# Altium integrated library TI Power Management Lighting and Display.IntLib: 745 symbols (part 24 of 48)
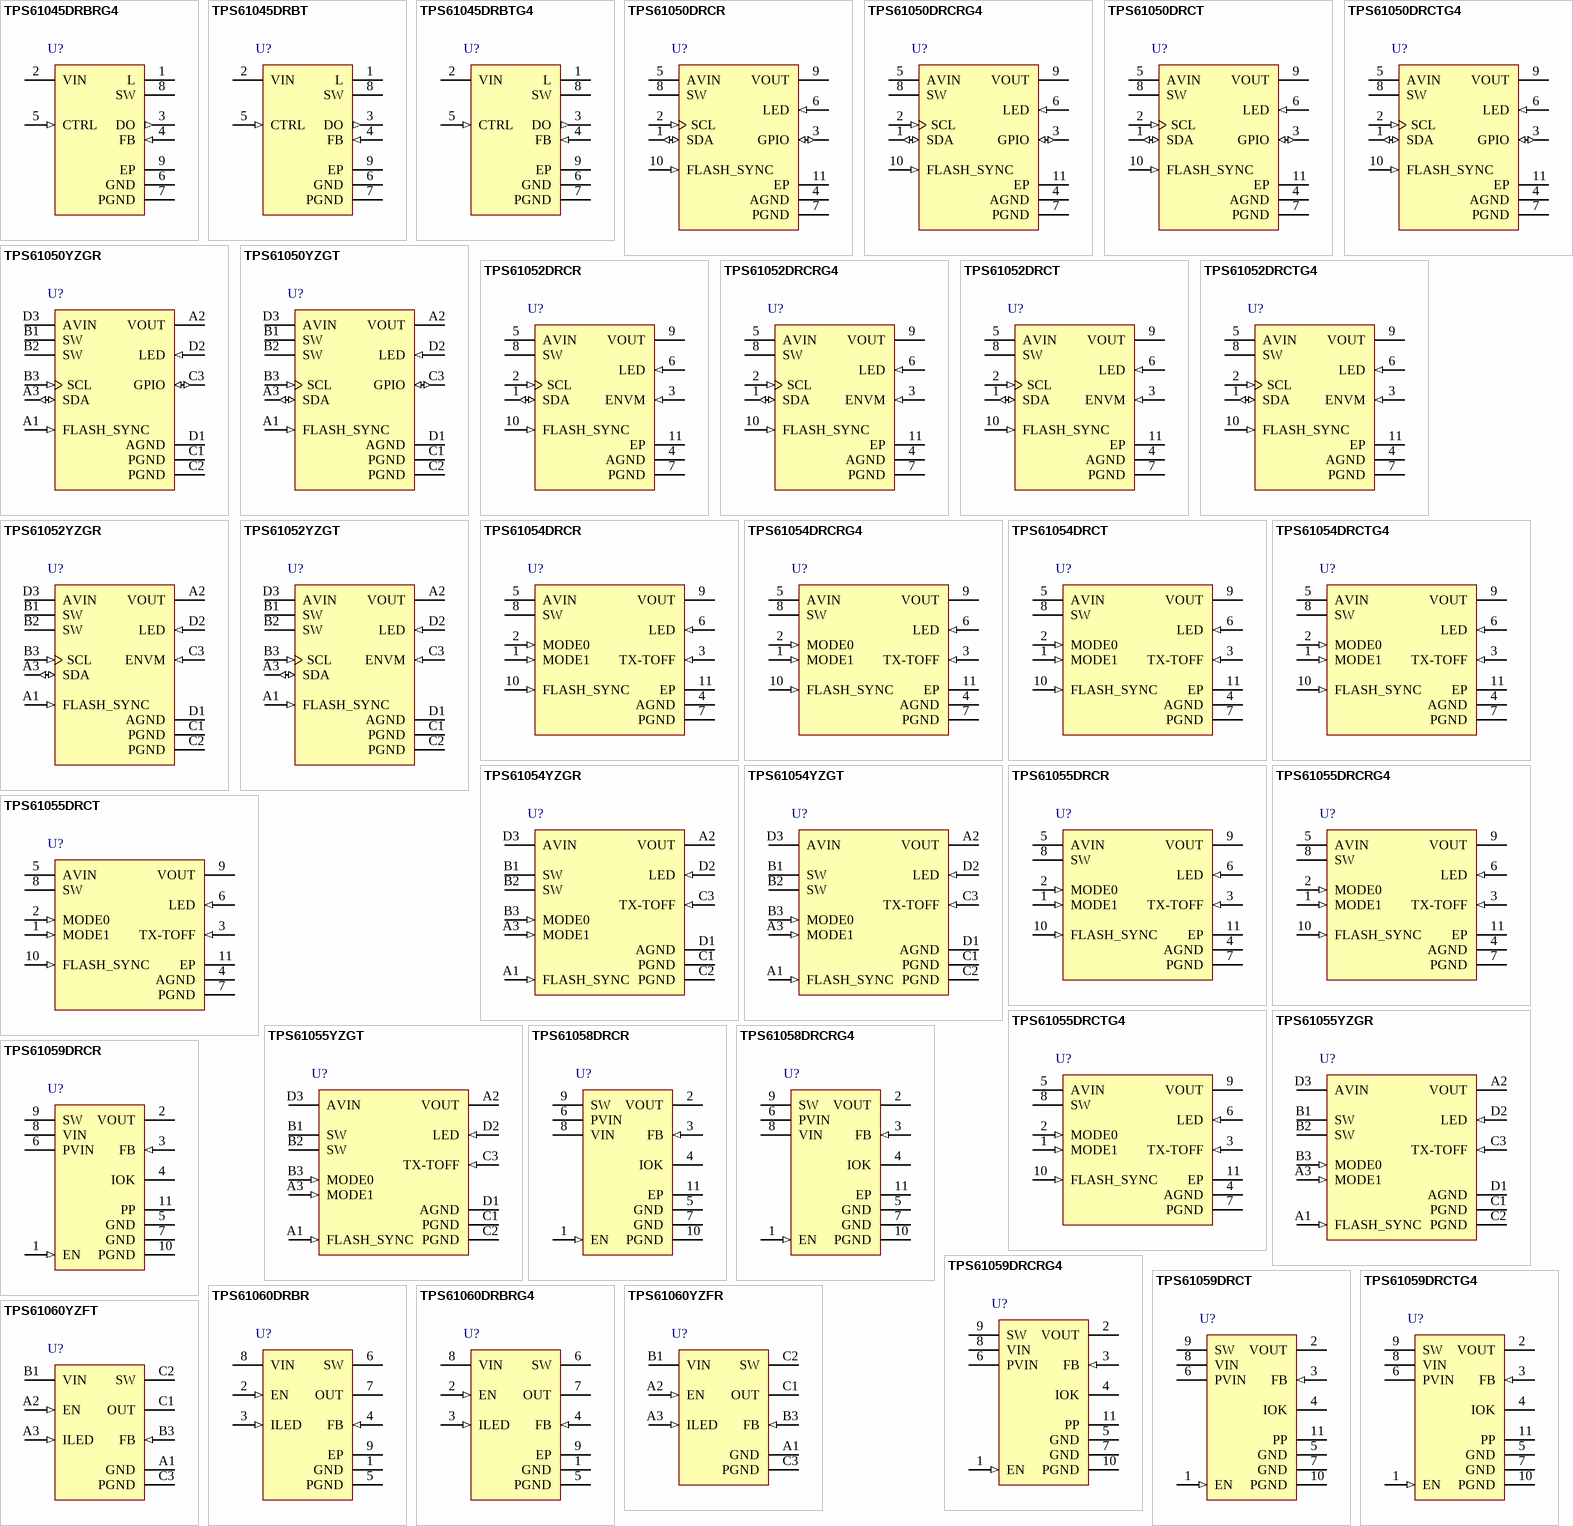
[diagram p54: symbols TPS61045DRBRG4 to TPS61060YZFT]

## TPS61052DRCR
designator U?
1.2 A High Power White LED Driver with I2C Compatible Interface, 2.5 to 6 V, -40 to 85 degC, 10-pin SON (DRC10), Green (RoHS & no Sb/Br); Manufacturer: Texas Instruments; PartNumber: TPS61052DRCR; Dimming: TRUE; Iout(Max)(A): 1.2; Iq(Typ)(mA): 8.5; Rating: Catalog; Switching Frequency(Max)(kHz): 2000; Topology: Boost; Vin(Max)(V): 6; Vin(Min)(V): 2.5; DatasheetVersion: SLUS525; PackageVersion: 4204102-3/L; PackageReference: DRC10-2400X1650TP; PackageDescription: 10-Pin Plastic Small Outline, Body 3 x 3 mm, Pitch 0.5 mm; Supplier 1: Digi-Key; Supplier Part Number 1: TPS61052DRCR-ND; Supplier 2: Mouser; Supplier Part Number 2: 595-TPS61052DRCR; Eco-Plan: Green (RoHS & no Sb/Br); SubFamily: White LED Driver; Synchronous Rectification: TRUE; Mounting Technology: Surface Mount; ComponentLink1Description: Manufacturer URL; ComponentLink1URL: http://www.ti.com/; ComponentLink2Description: Datasheet; ComponentLink2URL: http://www.ti.com/general/docs/lit/getliterature.tsp?genericPartNumber=TPS61052&fileType=pdf; ComponentLink3Description: Package Specification; ComponentLink3URL: http://www.ti.com/litv/pdf/mpds117k
footprint TI-DRC10-2400X1650TP_V (SON, 10-Leads, Body 3x3mm, Pitch 0.5mm, Thermal Pad 3x1.65mm)
pins: 1 SDA (io) "Serial interface address/data line. This pin must not be left floating and must be terminated.", 2 SCL (in) "Serial interface clock line. This pin must not be left floating and must be terminated.", 3 ENVM (in) "Enable pin for voltage mode boost converter (TPS61052).", 4 AGND (power) "Analog ground.", 5 AVIN (power) "This is the input voltage pin of the device. Connect directly to the input bypass capacitor.", 6 LED (in) "LED return input. This feedback pin regulates the LED current through the internal sense resistor by regulating the voltage across it. The regulation operates with typically 250 mV dropout voltage. Connect to the cathode of (See Datasheet)", 7 PGND (power) "Power ground. Connect to AGND underneath IC.", 8 SW (power) "Inductor connection. Drain of the internal power MOSFET. Connect to the switched side of the inductor. SW is high impedance during shutdown.", 9 VOUT (power) "Boost converter output.", 10 FLASH_SYNC (in) "Flash strobe pulse synchronization input. FLASH_SYNC = LOW (GND): The device is operating and regulating the LED current to the torch current level (TC). FLASH_SYNC = HIGH (VIN): The device is operating and regulating the (See Datasheet)", 11 EP (power) "Internally connected to PGND."

## TPS61052DRCRG4
designator U?
1.2 A High Power White LED Driver with I2C Compatible Interface, 2.5 to 6 V, -40 to 85 degC, 10-pin SON (DRC10), Green (RoHS & no Sb/Br); Manufacturer: Texas Instruments; PartNumber: TPS61052DRCRG4; Dimming: TRUE; Iout(Max)(A): 1.2; Iq(Typ)(mA): 8.5; Rating: Catalog; Switching Frequency(Max)(kHz): 2000; Topology: Boost; Vin(Max)(V): 6; Vin(Min)(V): 2.5; DatasheetVersion: SLUS525; PackageVersion: 4204102-3/L; PackageReference: DRC10-2400X1650TP; PackageDescription: 10-Pin Plastic Small Outline, Body 3 x 3 mm, Pitch 0.5 mm; Supplier 1: Digi-Key; Supplier Part Number 1: TPS61052DRCRG4-ND; Supplier 2: Mouser; Supplier Part Number 2: 595-TPS61052DRCRG4; Eco-Plan: Green (RoHS & no Sb/Br); SubFamily: White LED Driver; Synchronous Rectification: TRUE; Mounting Technology: Surface Mount; ComponentLink1Description: Manufacturer URL; ComponentLink1URL: http://www.ti.com/; ComponentLink2Description: Datasheet; ComponentLink2URL: http://www.ti.com/general/docs/lit/getliterature.tsp?genericPartNumber=TPS61052&fileType=pdf; ComponentLink3Description: Package Specification; ComponentLink3URL: http://www.ti.com/litv/pdf/mpds117k
footprint TI-DRC10-2400X1650TP_V (SON, 10-Leads, Body 3x3mm, Pitch 0.5mm, Thermal Pad 3x1.65mm)
pins: 1 SDA (io) "Serial interface address/data line. This pin must not be left floating and must be terminated.", 2 SCL (in) "Serial interface clock line. This pin must not be left floating and must be terminated.", 3 ENVM (in) "Enable pin for voltage mode boost converter (TPS61052).", 4 AGND (power) "Analog ground.", 5 AVIN (power) "This is the input voltage pin of the device. Connect directly to the input bypass capacitor.", 6 LED (in) "LED return input. This feedback pin regulates the LED current through the internal sense resistor by regulating the voltage across it. The regulation operates with typically 250 mV dropout voltage. Connect to the cathode of (See Datasheet)", 7 PGND (power) "Power ground. Connect to AGND underneath IC.", 8 SW (power) "Inductor connection. Drain of the internal power MOSFET. Connect to the switched side of the inductor. SW is high impedance during shutdown.", 9 VOUT (power) "Boost converter output.", 10 FLASH_SYNC (in) "Flash strobe pulse synchronization input. FLASH_SYNC = LOW (GND): The device is operating and regulating the LED current to the torch current level (TC). FLASH_SYNC = HIGH (VIN): The device is operating and regulating the (See Datasheet)", 11 EP (power) "Internally connected to PGND."

## TPS61052DRCT
designator U?
1.2 A High Power White LED Driver with I2C Compatible Interface, 2.5 to 6 V, -40 to 85 degC, 10-pin SON (DRC10), Green (RoHS & no Sb/Br); Manufacturer: Texas Instruments; PartNumber: TPS61052DRCT; Dimming: TRUE; Iout(Max)(A): 1.2; Iq(Typ)(mA): 8.5; Rating: Catalog; Switching Frequency(Max)(kHz): 2000; Topology: Boost; Vin(Max)(V): 6; Vin(Min)(V): 2.5; DatasheetVersion: SLUS525; PackageVersion: 4204102-3/L; PackageReference: DRC10-2400X1650TP; PackageDescription: 10-Pin Plastic Small Outline, Body 3 x 3 mm, Pitch 0.5 mm; Supplier 1: Digi-Key; Supplier Part Number 1: 296-23720-2-ND; Supplier 2: Digi-Key; Supplier Part Number 2: 296-23720-1-ND; Supplier 3: Digi-Key; Supplier Part Number 3: 296-23720-6-ND; Supplier 4: Mouser; Supplier Part Number 4: 595-TPS61052DRCT; Eco-Plan: Green (RoHS & no Sb/Br); SubFamily: White LED Driver; Synchronous Rectification: TRUE; Mounting Technology: Surface Mount; ComponentLink1Description: Manufacturer URL; ComponentLink1URL: http://www.ti.com/; ComponentLink2Description: Datasheet; ComponentLink2URL: http://www.ti.com/general/docs/lit/getliterature.tsp?genericPartNumber=TPS61052&fileType=pdf; ComponentLink3Description: Package Specification; ComponentLink3URL: http://www.ti.com/litv/pdf/mpds117k
footprint TI-DRC10-2400X1650TP_V (SON, 10-Leads, Body 3x3mm, Pitch 0.5mm, Thermal Pad 3x1.65mm)
pins: 1 SDA (io) "Serial interface address/data line. This pin must not be left floating and must be terminated.", 2 SCL (in) "Serial interface clock line. This pin must not be left floating and must be terminated.", 3 ENVM (in) "Enable pin for voltage mode boost converter (TPS61052).", 4 AGND (power) "Analog ground.", 5 AVIN (power) "This is the input voltage pin of the device. Connect directly to the input bypass capacitor.", 6 LED (in) "LED return input. This feedback pin regulates the LED current through the internal sense resistor by regulating the voltage across it. The regulation operates with typically 250 mV dropout voltage. Connect to the cathode of (See Datasheet)", 7 PGND (power) "Power ground. Connect to AGND underneath IC.", 8 SW (power) "Inductor connection. Drain of the internal power MOSFET. Connect to the switched side of the inductor. SW is high impedance during shutdown.", 9 VOUT (power) "Boost converter output.", 10 FLASH_SYNC (in) "Flash strobe pulse synchronization input. FLASH_SYNC = LOW (GND): The device is operating and regulating the LED current to the torch current level (TC). FLASH_SYNC = HIGH (VIN): The device is operating and regulating the (See Datasheet)", 11 EP (power) "Internally connected to PGND."

## TPS61052DRCTG4
designator U?
1.2 A High Power White LED Driver with I2C Compatible Interface, 2.5 to 6 V, -40 to 85 degC, 10-pin SON (DRC10), Green (RoHS & no Sb/Br); Manufacturer: Texas Instruments; PartNumber: TPS61052DRCTG4; Dimming: TRUE; Iout(Max)(A): 1.2; Iq(Typ)(mA): 8.5; Rating: Catalog; Switching Frequency(Max)(kHz): 2000; Topology: Boost; Vin(Max)(V): 6; Vin(Min)(V): 2.5; DatasheetVersion: SLUS525; PackageVersion: 4204102-3/L; PackageReference: DRC10-2400X1650TP; PackageDescription: 10-Pin Plastic Small Outline, Body 3 x 3 mm, Pitch 0.5 mm; Supplier 1: Digi-Key; Supplier Part Number 1: TPS61052DRCTG4-ND; Supplier 2: Mouser; Supplier Part Number 2: 595-TPS61052DRCTG4; Eco-Plan: Green (RoHS & no Sb/Br); SubFamily: White LED Driver; Synchronous Rectification: TRUE; Mounting Technology: Surface Mount; ComponentLink1Description: Manufacturer URL; ComponentLink1URL: http://www.ti.com/; ComponentLink2Description: Datasheet; ComponentLink2URL: http://www.ti.com/general/docs/lit/getliterature.tsp?genericPartNumber=TPS61052&fileType=pdf; ComponentLink3Description: Package Specification; ComponentLink3URL: http://www.ti.com/litv/pdf/mpds117k
footprint TI-DRC10-2400X1650TP_V (SON, 10-Leads, Body 3x3mm, Pitch 0.5mm, Thermal Pad 3x1.65mm)
pins: 1 SDA (io) "Serial interface address/data line. This pin must not be left floating and must be terminated.", 2 SCL (in) "Serial interface clock line. This pin must not be left floating and must be terminated.", 3 ENVM (in) "Enable pin for voltage mode boost converter (TPS61052).", 4 AGND (power) "Analog ground.", 5 AVIN (power) "This is the input voltage pin of the device. Connect directly to the input bypass capacitor.", 6 LED (in) "LED return input. This feedback pin regulates the LED current through the internal sense resistor by regulating the voltage across it. The regulation operates with typically 250 mV dropout voltage. Connect to the cathode of (See Datasheet)", 7 PGND (power) "Power ground. Connect to AGND underneath IC.", 8 SW (power) "Inductor connection. Drain of the internal power MOSFET. Connect to the switched side of the inductor. SW is high impedance during shutdown.", 9 VOUT (power) "Boost converter output.", 10 FLASH_SYNC (in) "Flash strobe pulse synchronization input. FLASH_SYNC = LOW (GND): The device is operating and regulating the LED current to the torch current level (TC). FLASH_SYNC = HIGH (VIN): The device is operating and regulating the (See Datasheet)", 11 EP (power) "Internally connected to PGND."

## TPS61052YZGR
designator U?
1.2 A High Power White LED Driver with I2C Compatible Interface, 2.5 to 6 V, -40 to 85 degC, 12-pin BGA (YZG12), Green (RoHS & no Sb/Br); Manufacturer: Texas Instruments; PartNumber: TPS61052YZGR; Dimming: TRUE; Iout(Max)(A): 1.2; Iq(Typ)(mA): 8.5; Rating: Catalog; Switching Frequency(Max)(kHz): 2000; Topology: Boost; Vin(Max)(V): 6; Vin(Min)(V): 2.5; DatasheetVersion: SLUS525; PackageVersion: 4205059/D; PackageReference: YZG12; PackageDescription: 12-Ball, Silicon Grid Array, Body Size 1.96 x 1.46 mm, Pitch 0.5 mm; Supplier 1: Digi-Key; Supplier Part Number 1: 296-21896-2-ND; Supplier 2: Digi-Key; Supplier Part Number 2: 296-21896-1-ND; Supplier 3: Digi-Key; Supplier Part Number 3: 296-21896-6-ND; Supplier 4: Newark; Supplier Part Number 4: 41M5884; Supplier 5: Mouser; Supplier Part Number 5: 595-TPS61052YZGR; Eco-Plan: Green (RoHS & no Sb/Br); SubFamily: White LED Driver; Synchronous Rectification: TRUE; Mounting Technology: Surface Mount; ComponentLink1Description: Manufacturer URL; ComponentLink1URL: http://www.ti.com/; ComponentLink2Description: Datasheet; ComponentLink2URL: http://www.ti.com/general/docs/lit/getliterature.tsp?genericPartNumber=TPS61052&fileType=pdf; ComponentLink3Description: Package Specification; ComponentLink3URL: http://www.ti.com/lit/ds/symlink/tps61054.pdf
footprint TI-YZG12-1960X1460DE (BGA, 12-Balls, Body 1.96x1.46mm, Pitch 0.5mm)
pins: A1 FLASH_SYNC (in) "Flash strobe pulse synchronization input. FLASH_SYNC = LOW (GND): The device is operating and regulating the LED current to the torch current level (TC). FLASH_SYNC = HIGH (VIN): The device is operating and regulating the (See Datasheet)", A2 VOUT (power) "Boost converter output.", A3 SDA (io) "Serial interface address/data line. This pin must not be left floating and must be terminated.", B1 SW (power) "Inductor connection. Drain of the internal power MOSFET. Connect to the switched side of the inductor. SW is high impedance during shutdown.", B2 SW (power) "Inductor connection. Drain of the internal power MOSFET. Connect to the switched side of the inductor. SW is high impedance during shutdown.", B3 SCL (in) "Serial interface clock line. This pin must not be left floating and must be terminated.", C1 PGND (power) "Power ground. Connect to AGND underneath IC.", C2 PGND (power) "Power ground. Connect to AGND underneath IC.", C3 ENVM (in) "Enable pin for voltage mode boost converter (TPS61052).", D1 AGND (power) "Analog ground.", D2 LED (in) "LED return input. This feedback pin regulates the LED current through the internal sense resistor by regulating the voltage across it. The regulation operates with typically 250 mV dropout voltage. Connect to the cathode of (See Datasheet)", D3 AVIN (power) "This is the input voltage pin of the device. Connect directly to the input bypass capacitor."

## TPS61052YZGT
designator U?
1.2 A High Power White LED Driver with I2C Compatible Interface, 2.5 to 6 V, -40 to 85 degC, 12-pin BGA (YZG12), Green (RoHS & no Sb/Br); Manufacturer: Texas Instruments; PartNumber: TPS61052YZGT; Dimming: TRUE; Iout(Max)(A): 1.2; Iq(Typ)(mA): 8.5; Rating: Catalog; Switching Frequency(Max)(kHz): 2000; Topology: Boost; Vin(Max)(V): 6; Vin(Min)(V): 2.5; DatasheetVersion: SLUS525; PackageVersion: 4205059/D; PackageReference: YZG12; PackageDescription: 12-Ball, Silicon Grid Array, Body Size 1.96 x 1.46 mm, Pitch 0.5 mm; Supplier 1: Digi-Key; Supplier Part Number 1: 296-21897-2-ND; Supplier 2: Digi-Key; Supplier Part Number 2: 296-21897-1-ND; Supplier 3: Digi-Key; Supplier Part Number 3: 296-21897-6-ND; Supplier 4: Mouser; Supplier Part Number 4: 595-TPS61052YZGT; Eco-Plan: Green (RoHS & no Sb/Br); SubFamily: White LED Driver; Synchronous Rectification: TRUE; Mounting Technology: Surface Mount; ComponentLink1Description: Manufacturer URL; ComponentLink1URL: http://www.ti.com/; ComponentLink2Description: Datasheet; ComponentLink2URL: http://www.ti.com/general/docs/lit/getliterature.tsp?genericPartNumber=TPS61052&fileType=pdf; ComponentLink3Description: Package Specification; ComponentLink3URL: http://www.ti.com/lit/ds/symlink/tps61054.pdf
footprint TI-YZG12-1960X1460DE (BGA, 12-Balls, Body 1.96x1.46mm, Pitch 0.5mm)
pins: A1 FLASH_SYNC (in) "Flash strobe pulse synchronization input. FLASH_SYNC = LOW (GND): The device is operating and regulating the LED current to the torch current level (TC). FLASH_SYNC = HIGH (VIN): The device is operating and regulating the (See Datasheet)", A2 VOUT (power) "Boost converter output.", A3 SDA (io) "Serial interface address/data line. This pin must not be left floating and must be terminated.", B1 SW (power) "Inductor connection. Drain of the internal power MOSFET. Connect to the switched side of the inductor. SW is high impedance during shutdown.", B2 SW (power) "Inductor connection. Drain of the internal power MOSFET. Connect to the switched side of the inductor. SW is high impedance during shutdown.", B3 SCL (in) "Serial interface clock line. This pin must not be left floating and must be terminated.", C1 PGND (power) "Power ground. Connect to AGND underneath IC.", C2 PGND (power) "Power ground. Connect to AGND underneath IC.", C3 ENVM (in) "Enable pin for voltage mode boost converter (TPS61052).", D1 AGND (power) "Analog ground.", D2 LED (in) "LED return input. This feedback pin regulates the LED current through the internal sense resistor by regulating the voltage across it. The regulation operates with typically 250 mV dropout voltage. Connect to the cathode of (See Datasheet)", D3 AVIN (power) "This is the input voltage pin of the device. Connect directly to the input bypass capacitor."

## TPS61054DRCR
designator U?
700 mA High Power White LED Driver with Standard Logic Interface, 2.5 to 6 V, -40 to 85 degC, 10-pin SON (DRC10), Green (RoHS & no Sb/Br); Manufacturer: Texas Instruments; PartNumber: TPS61054DRCR; Dimming: TRUE; Iout(Max)(A): 1.2; Iq(Typ)(mA): 8.5; Rating: Catalog; Switching Frequency(Max)(kHz): 2000; Topology: Boost; Vin(Max)(V): 6; Vin(Min)(V): 2.5; DatasheetVersion: SLUS760A; PackageVersion: 4204102-3/L; PackageReference: DRC10-2400X1650TP; PackageDescription: 10-Pin Plastic Small Outline, Body 3 x 3 mm, Pitch 0.5 mm; Supplier 1: Digi-Key; Supplier Part Number 1: TPS61054DRCR-ND; Supplier 2: Mouser; Supplier Part Number 2: 595-TPS61054DRCR; Eco-Plan: Green (RoHS & no Sb/Br); SubFamily: White LED Driver; Mounting Technology: Surface Mount; ComponentLink1Description: Manufacturer URL; ComponentLink1URL: http://www.ti.com/; ComponentLink2Description: Datasheet; ComponentLink2URL: http://www.ti.com/general/docs/lit/getliterature.tsp?genericPartNumber=TPS61054&fileType=pdf; ComponentLink3Description: Package Specification; ComponentLink3URL: http://www.ti.com/litv/pdf/mpds117k
footprint TI-DRC10-2400X1650TP_V (SON, 10-Leads, Body 3x3mm, Pitch 0.5mm, Thermal Pad 3x1.65mm)
pins: 1 MODE1 (in) "Mode selection inputs. These pins must not be left floating and must be terminated.MODE0 = 0, MODE1 = 0: Device in shutdown mode MODE0 = 1, MODE1 = 0: Device in torch only mode MODE0 = 0, MODE1 = 1: Device in torch and flash (See Datasheet)", 2 MODE0 (in) "Mode selection inputs. These pins must not be left floating and must be terminated.MODE0 = 0, MODE1 = 0: Device in shutdown mode MODE0 = 1, MODE1 = 0: Device in torch only mode MODE0 = 0, MODE1 = 1: Device in torch and flash (See Datasheet)", 3 TX-TOFF (in) "RF PA synchronization input. Tx-TOFF = LOW : The device is operating normally. Tx-TOFF = HIGH : The device is forced into torch mode.", 4 AGND (power) "Analog ground.", 5 AVIN (power) "This is the input voltage pin of the device. Connect directly to the input bypass capacitor.", 6 LED (in) "LED return input. This feedback pin regulates the LED current through the internal sense resistor by regulating the voltage across it. The regulation operates with typically 250 mV dropout voltage. Connect to the cathode of (See Datasheet)", 7 PGND (power) "Power ground. Connect to AGND underneath IC.", 8 SW (power) "Inductor connection. Drain of the internal power MOSFE.Connect to the switched side of the inductor. SW is high impedance during shutdown.", 9 VOUT (power) "Boost converter output.", 10 FLASH_SYNC (in) "Flash strobe pulse synchronization input. FLASH_SYNC = LOW (GND): The device is operating and regulating the LED current to the torch current level (TC). FLASH_SYNC = HIGH (VIN): The device is operating and regulating the (See Datasheet)", 11 EP (power) "Internally connected to PGND."

## TPS61054DRCRG4
designator U?
700 mA High Power White LED Driver with Standard Logic Interface, 2.5 to 6 V, -40 to 85 degC, 10-pin SON (DRC10), Green (RoHS & no Sb/Br); Manufacturer: Texas Instruments; PartNumber: TPS61054DRCRG4; Dimming: TRUE; Iout(Max)(A): 1.2; Iq(Typ)(mA): 8.5; Rating: Catalog; Switching Frequency(Max)(kHz): 2000; Topology: Boost; Vin(Max)(V): 6; Vin(Min)(V): 2.5; DatasheetVersion: SLUS760A; PackageVersion: 4204102-3/L; PackageReference: DRC10-2400X1650TP; PackageDescription: 10-Pin Plastic Small Outline, Body 3 x 3 mm, Pitch 0.5 mm; Supplier 1: Digi-Key; Supplier Part Number 1: TPS61054DRCRG4-ND; Supplier 2: Mouser; Supplier Part Number 2: 595-TPS61054DRCRG4; Eco-Plan: Green (RoHS & no Sb/Br); SubFamily: White LED Driver; Mounting Technology: Surface Mount; ComponentLink1Description: Manufacturer URL; ComponentLink1URL: http://www.ti.com/; ComponentLink2Description: Datasheet; ComponentLink2URL: http://www.ti.com/general/docs/lit/getliterature.tsp?genericPartNumber=TPS61054&fileType=pdf; ComponentLink3Description: Package Specification; ComponentLink3URL: http://www.ti.com/litv/pdf/mpds117k
footprint TI-DRC10-2400X1650TP_V (SON, 10-Leads, Body 3x3mm, Pitch 0.5mm, Thermal Pad 3x1.65mm)
pins: 1 MODE1 (in) "Mode selection inputs. These pins must not be left floating and must be terminated.MODE0 = 0, MODE1 = 0: Device in shutdown mode MODE0 = 1, MODE1 = 0: Device in torch only mode MODE0 = 0, MODE1 = 1: Device in torch and flash (See Datasheet)", 2 MODE0 (in) "Mode selection inputs. These pins must not be left floating and must be terminated.MODE0 = 0, MODE1 = 0: Device in shutdown mode MODE0 = 1, MODE1 = 0: Device in torch only mode MODE0 = 0, MODE1 = 1: Device in torch and flash (See Datasheet)", 3 TX-TOFF (in) "RF PA synchronization input. Tx-TOFF = LOW : The device is operating normally. Tx-TOFF = HIGH : The device is forced into torch mode.", 4 AGND (power) "Analog ground.", 5 AVIN (power) "This is the input voltage pin of the device. Connect directly to the input bypass capacitor.", 6 LED (in) "LED return input. This feedback pin regulates the LED current through the internal sense resistor by regulating the voltage across it. The regulation operates with typically 250 mV dropout voltage. Connect to the cathode of (See Datasheet)", 7 PGND (power) "Power ground. Connect to AGND underneath IC.", 8 SW (power) "Inductor connection. Drain of the internal power MOSFE.Connect to the switched side of the inductor. SW is high impedance during shutdown.", 9 VOUT (power) "Boost converter output.", 10 FLASH_SYNC (in) "Flash strobe pulse synchronization input. FLASH_SYNC = LOW (GND): The device is operating and regulating the LED current to the torch current level (TC). FLASH_SYNC = HIGH (VIN): The device is operating and regulating the (See Datasheet)", 11 EP (power) "Internally connected to PGND."

## TPS61054DRCT
designator U?
700 mA High Power White LED Driver with Standard Logic Interface, 2.5 to 6 V, -40 to 85 degC, 10-pin SON (DRC10), Green (RoHS & no Sb/Br); Manufacturer: Texas Instruments; PartNumber: TPS61054DRCT; Dimming: TRUE; Iout(Max)(A): 1.2; Iq(Typ)(mA): 8.5; Rating: Catalog; Switching Frequency(Max)(kHz): 2000; Topology: Boost; Vin(Max)(V): 6; Vin(Min)(V): 2.5; DatasheetVersion: SLUS760A; PackageVersion: 4204102-3/L; PackageReference: DRC10-2400X1650TP; PackageDescription: 10-Pin Plastic Small Outline, Body 3 x 3 mm, Pitch 0.5 mm; Supplier 1: Digi-Key; Supplier Part Number 1: 296-23434-2-ND; Supplier 2: Digi-Key; Supplier Part Number 2: 296-23434-1-ND; Supplier 3: Digi-Key; Supplier Part Number 3: 296-23434-6-ND; Supplier 4: Farnell; Supplier Part Number 4: 1647913RL; Supplier 5: Farnell; Supplier Part Number 5: 1647913; Supplier 6: Mouser; Supplier Part Number 6: 595-TPS61054DRCT; Eco-Plan: Green (RoHS & no Sb/Br); SubFamily: White LED Driver; Mounting Technology: Surface Mount; ComponentLink1Description: Manufacturer URL; ComponentLink1URL: http://www.ti.com/; ComponentLink2Description: Datasheet; ComponentLink2URL: http://www.ti.com/general/docs/lit/getliterature.tsp?genericPartNumber=TPS61054&fileType=pdf; ComponentLink3Description: Package Specification; ComponentLink3URL: http://www.ti.com/litv/pdf/mpds117k
footprint TI-DRC10-2400X1650TP_V (SON, 10-Leads, Body 3x3mm, Pitch 0.5mm, Thermal Pad 3x1.65mm)
pins: 1 MODE1 (in) "Mode selection inputs. These pins must not be left floating and must be terminated.MODE0 = 0, MODE1 = 0: Device in shutdown mode MODE0 = 1, MODE1 = 0: Device in torch only mode MODE0 = 0, MODE1 = 1: Device in torch and flash (See Datasheet)", 2 MODE0 (in) "Mode selection inputs. These pins must not be left floating and must be terminated.MODE0 = 0, MODE1 = 0: Device in shutdown mode MODE0 = 1, MODE1 = 0: Device in torch only mode MODE0 = 0, MODE1 = 1: Device in torch and flash (See Datasheet)", 3 TX-TOFF (in) "RF PA synchronization input. Tx-TOFF = LOW : The device is operating normally. Tx-TOFF = HIGH : The device is forced into torch mode.", 4 AGND (power) "Analog ground.", 5 AVIN (power) "This is the input voltage pin of the device. Connect directly to the input bypass capacitor.", 6 LED (in) "LED return input. This feedback pin regulates the LED current through the internal sense resistor by regulating the voltage across it. The regulation operates with typically 250 mV dropout voltage. Connect to the cathode of (See Datasheet)", 7 PGND (power) "Power ground. Connect to AGND underneath IC.", 8 SW (power) "Inductor connection. Drain of the internal power MOSFE.Connect to the switched side of the inductor. SW is high impedance during shutdown.", 9 VOUT (power) "Boost converter output.", 10 FLASH_SYNC (in) "Flash strobe pulse synchronization input. FLASH_SYNC = LOW (GND): The device is operating and regulating the LED current to the torch current level (TC). FLASH_SYNC = HIGH (VIN): The device is operating and regulating the (See Datasheet)", 11 EP (power) "Internally connected to PGND."

## TPS61054DRCTG4
designator U?
700 mA High Power White LED Driver with Standard Logic Interface, 2.5 to 6 V, -40 to 85 degC, 10-pin SON (DRC10), Green (RoHS & no Sb/Br); Manufacturer: Texas Instruments; PartNumber: TPS61054DRCTG4; Dimming: TRUE; Iout(Max)(A): 1.2; Iq(Typ)(mA): 8.5; Rating: Catalog; Switching Frequency(Max)(kHz): 2000; Topology: Boost; Vin(Max)(V): 6; Vin(Min)(V): 2.5; DatasheetVersion: SLUS760A; PackageVersion: 4204102-3/L; PackageReference: DRC10-2400X1650TP; PackageDescription: 10-Pin Plastic Small Outline, Body 3 x 3 mm, Pitch 0.5 mm; Supplier 1: Digi-Key; Supplier Part Number 1: TPS61054DRCTG4-ND; Supplier 2: Mouser; Supplier Part Number 2: 595-TPS61054DRCTG4; Eco-Plan: Green (RoHS & no Sb/Br); SubFamily: White LED Driver; Mounting Technology: Surface Mount; ComponentLink1Description: Manufacturer URL; ComponentLink1URL: http://www.ti.com/; ComponentLink2Description: Datasheet; ComponentLink2URL: http://www.ti.com/general/docs/lit/getliterature.tsp?genericPartNumber=TPS61054&fileType=pdf; ComponentLink3Description: Package Specification; ComponentLink3URL: http://www.ti.com/litv/pdf/mpds117k
footprint TI-DRC10-2400X1650TP_V (SON, 10-Leads, Body 3x3mm, Pitch 0.5mm, Thermal Pad 3x1.65mm)
pins: 1 MODE1 (in) "Mode selection inputs. These pins must not be left floating and must be terminated.MODE0 = 0, MODE1 = 0: Device in shutdown mode MODE0 = 1, MODE1 = 0: Device in torch only mode MODE0 = 0, MODE1 = 1: Device in torch and flash (See Datasheet)", 2 MODE0 (in) "Mode selection inputs. These pins must not be left floating and must be terminated.MODE0 = 0, MODE1 = 0: Device in shutdown mode MODE0 = 1, MODE1 = 0: Device in torch only mode MODE0 = 0, MODE1 = 1: Device in torch and flash (See Datasheet)", 3 TX-TOFF (in) "RF PA synchronization input. Tx-TOFF = LOW : The device is operating normally. Tx-TOFF = HIGH : The device is forced into torch mode.", 4 AGND (power) "Analog ground.", 5 AVIN (power) "This is the input voltage pin of the device. Connect directly to the input bypass capacitor.", 6 LED (in) "LED return input. This feedback pin regulates the LED current through the internal sense resistor by regulating the voltage across it. The regulation operates with typically 250 mV dropout voltage. Connect to the cathode of (See Datasheet)", 7 PGND (power) "Power ground. Connect to AGND underneath IC.", 8 SW (power) "Inductor connection. Drain of the internal power MOSFE.Connect to the switched side of the inductor. SW is high impedance during shutdown.", 9 VOUT (power) "Boost converter output.", 10 FLASH_SYNC (in) "Flash strobe pulse synchronization input. FLASH_SYNC = LOW (GND): The device is operating and regulating the LED current to the torch current level (TC). FLASH_SYNC = HIGH (VIN): The device is operating and regulating the (See Datasheet)", 11 EP (power) "Internally connected to PGND."

## TPS61054YZGR
designator U?
700 mA High Power White LED Driver with Standard Logic Interface, 2.5 to 6 V, -40 to 85 degC, 12-pin BGA (YZG12), Green (RoHS & no Sb/Br); Manufacturer: Texas Instruments; PartNumber: TPS61054YZGR; Dimming: TRUE; Iout(Max)(A): 1.2; Iq(Typ)(mA): 8.5; Rating: Catalog; Switching Frequency(Max)(kHz): 2000; Topology: Boost; Vin(Max)(V): 6; Vin(Min)(V): 2.5; DatasheetVersion: SLUS760A; PackageVersion: 4205059/D; PackageReference: YZG12; PackageDescription: 12-Ball, Silicon Grid Array, Body Size 1.96 x 1.46 mm, Pitch 0.5 mm; Supplier 1: Digi-Key; Supplier Part Number 1: 296-23548-2-ND; Supplier 2: Digi-Key; Supplier Part Number 2: 296-23548-1-ND; Supplier 3: Digi-Key; Supplier Part Number 3: 296-23548-6-ND; Supplier 4: Newark; Supplier Part Number 4: 03P5211; Supplier 5: Mouser; Supplier Part Number 5: 595-TPS61054YZGR; Eco-Plan: Green (RoHS & no Sb/Br); SubFamily: White LED Driver; Mounting Technology: Surface Mount; ComponentLink1Description: Manufacturer URL; ComponentLink1URL: http://www.ti.com/; ComponentLink2Description: Datasheet; ComponentLink2URL: http://www.ti.com/general/docs/lit/getliterature.tsp?genericPartNumber=TPS61054&fileType=pdf; ComponentLink3Description: Package Specification; ComponentLink3URL: http://www.ti.com/lit/ds/symlink/tps61054.pdf
footprint TI-YZG12-1960X1460DE (BGA, 12-Balls, Body 1.96x1.46mm, Pitch 0.5mm)
pins: A1 FLASH_SYNC (in) "Flash strobe pulse synchronization input. FLASH_SYNC = LOW (GND): The device is operating and regulating the LED current to the torch current level (TC). FLASH_SYNC = HIGH (VIN): The device is operating and regulating the (See Datasheet)", A2 VOUT (power) "Boost converter output.", A3 MODE1 (in) "Mode selection inputs. These pins must not be left floating and must be terminated. MODE0 = 0, MODE1 = 0: Device in shutdown mode MODE0 = 1, MODE1 = 0: Device in torch only mode MODE0 = 0, MODE1 = 1: Device in torch and (See Datasheet)", B1 SW (power) "Inductor connection. Drain of the internal power MOSFET. Connect to the switched side of the inductor. SW is high impedance during shutdown.", B2 SW (power) "Inductor connection. Drain of the internal power MOSFET. Connect to the switched side of the inductor. SW is high impedance during shutdown.", B3 MODE0 (in) "Mode selection inputs. These pins must not be left floating and must be terminated. MODE0 = 0, MODE1 = 0: Device in shutdown mode MODE0 = 1, MODE1 = 0: Device in torch only mode MODE0 = 0, MODE1 = 1: Device in torch and (See Datasheet)", C1 PGND (power) "Power ground. Connect to AGND underneath IC.", C2 PGND (power) "Power ground. Connect to AGND underneath IC.", C3 TX-TOFF (in) "RF PA synchronization input. Tx-TOFF = LOW : The device is operating normally. Tx-TOFF = HIGH : The device is forced into torch mode.", D1 AGND (power) "Analog ground.", D2 LED (in) "LED return input. This feedback pin regulates the LED current through the internal sense resistor by regulating the voltage across it. The regulation operates with typically 250 mV dropout voltage. Connect to the cathode of (See Datasheet)", D3 AVIN (power) "This is the input voltage pin of the device. Connect directly to the input bypass capacitor."

## TPS61054YZGT
designator U?
700 mA High Power White LED Driver with Standard Logic Interface, 2.5 to 6 V, -40 to 85 degC, 12-pin BGA (YZG12), Green (RoHS & no Sb/Br); Manufacturer: Texas Instruments; PartNumber: TPS61054YZGT; Dimming: TRUE; Iout(Max)(A): 1.2; Iq(Typ)(mA): 8.5; Rating: Catalog; Switching Frequency(Max)(kHz): 2000; Topology: Boost; Vin(Max)(V): 6; Vin(Min)(V): 2.5; DatasheetVersion: SLUS760A; PackageVersion: 4205059/D; PackageReference: YZG12; PackageDescription: 12-Ball, Silicon Grid Array, Body Size 1.96 x 1.46 mm, Pitch 0.5 mm; Supplier 1: Digi-Key; Supplier Part Number 1: TPS61054YZGT-ND; Supplier 2: Mouser; Supplier Part Number 2: 595-TPS61054YZGT; Eco-Plan: Green (RoHS & no Sb/Br); SubFamily: White LED Driver; Mounting Technology: Surface Mount; ComponentLink1Description: Manufacturer URL; ComponentLink1URL: http://www.ti.com/; ComponentLink2Description: Datasheet; ComponentLink2URL: http://www.ti.com/general/docs/lit/getliterature.tsp?genericPartNumber=TPS61054&fileType=pdf; ComponentLink3Description: Package Specification; ComponentLink3URL: http://www.ti.com/lit/ds/symlink/tps61054.pdf
footprint TI-YZG12-1960X1460DE (BGA, 12-Balls, Body 1.96x1.46mm, Pitch 0.5mm)
pins: A1 FLASH_SYNC (in) "Flash strobe pulse synchronization input. FLASH_SYNC = LOW (GND): The device is operating and regulating the LED current to the torch current level (TC). FLASH_SYNC = HIGH (VIN): The device is operating and regulating the (See Datasheet)", A2 VOUT (power) "Boost converter output.", A3 MODE1 (in) "Mode selection inputs. These pins must not be left floating and must be terminated. MODE0 = 0, MODE1 = 0: Device in shutdown mode MODE0 = 1, MODE1 = 0: Device in torch only mode MODE0 = 0, MODE1 = 1: Device in torch and (See Datasheet)", B1 SW (power) "Inductor connection. Drain of the internal power MOSFET. Connect to the switched side of the inductor. SW is high impedance during shutdown.", B2 SW (power) "Inductor connection. Drain of the internal power MOSFET. Connect to the switched side of the inductor. SW is high impedance during shutdown.", B3 MODE0 (in) "Mode selection inputs. These pins must not be left floating and must be terminated. MODE0 = 0, MODE1 = 0: Device in shutdown mode MODE0 = 1, MODE1 = 0: Device in torch only mode MODE0 = 0, MODE1 = 1: Device in torch and (See Datasheet)", C1 PGND (power) "Power ground. Connect to AGND underneath IC.", C2 PGND (power) "Power ground. Connect to AGND underneath IC.", C3 TX-TOFF (in) "RF PA synchronization input. Tx-TOFF = LOW : The device is operating normally. Tx-TOFF = HIGH : The device is forced into torch mode.", D1 AGND (power) "Analog ground.", D2 LED (in) "LED return input. This feedback pin regulates the LED current through the internal sense resistor by regulating the voltage across it. The regulation operates with typically 250 mV dropout voltage. Connect to the cathode of (See Datasheet)", D3 AVIN (power) "This is the input voltage pin of the device. Connect directly to the input bypass capacitor."

## TPS61055DRCR
designator U?
500 mA High Power White LED Driver with Standard Logic Interface, 2.5 to 6 V, -40 to 85 degC, 10-pin SON (DRC10), Green (RoHS & no Sb/Br); Manufacturer: Texas Instruments; PartNumber: TPS61055DRCR; Dimming: TRUE; Iout(Max)(A): 1.2; Iq(Typ)(mA): 8.5; Rating: Catalog; Switching Frequency(Max)(kHz): 2000; Topology: Boost; Vin(Max)(V): 6; Vin(Min)(V): 2.5; DatasheetVersion: SLUS760A; PackageVersion: 4204102-3/L; PackageReference: DRC10-2400X1650TP; PackageDescription: 10-Pin Plastic Small Outline, Body 3 x 3 mm, Pitch 0.5 mm; Supplier 1: Digi-Key; Supplier Part Number 1: TPS61055DRCR-ND; Supplier 2: Mouser; Supplier Part Number 2: 595-TPS61055DRCR; Eco-Plan: Green (RoHS & no Sb/Br); SubFamily: White LED Driver; Mounting Technology: Surface Mount; ComponentLink1Description: Manufacturer URL; ComponentLink1URL: http://www.ti.com/; ComponentLink2Description: Datasheet; ComponentLink2URL: http://www.ti.com/general/docs/lit/getliterature.tsp?genericPartNumber=TPS61055&fileType=pdf; ComponentLink3Description: Package Specification; ComponentLink3URL: http://www.ti.com/litv/pdf/mpds117k
footprint TI-DRC10-2400X1650TP_V (SON, 10-Leads, Body 3x3mm, Pitch 0.5mm, Thermal Pad 3x1.65mm)
pins: 1 MODE1 (in) "Mode selection inputs. These pins must not be left floating and must be terminated.MODE0 = 0, MODE1 = 0: Device in shutdown mode MODE0 = 1, MODE1 = 0: Device in torch only mode MODE0 = 0, MODE1 = 1: Device in torch and flash (See Datasheet)", 2 MODE0 (in) "Mode selection inputs. These pins must not be left floating and must be terminated.MODE0 = 0, MODE1 = 0: Device in shutdown mode MODE0 = 1, MODE1 = 0: Device in torch only mode MODE0 = 0, MODE1 = 1: Device in torch and flash (See Datasheet)", 3 TX-TOFF (in) "RF PA synchronization input. Tx-TOFF = LOW : The device is operating normally. Tx-TOFF = HIGH : The device is forced into torch mode.", 4 AGND (power) "Analog ground.", 5 AVIN (power) "This is the input voltage pin of the device. Connect directly to the input bypass capacitor.", 6 LED (in) "LED return input. This feedback pin regulates the LED current through the internal sense resistor by regulating the voltage across it. The regulation operates with typically 250 mV dropout voltage. Connect to the cathode of (See Datasheet)", 7 PGND (power) "Power ground. Connect to AGND underneath IC.", 8 SW (power) "Inductor connection. Drain of the internal power MOSFE.Connect to the switched side of the inductor. SW is high impedance during shutdown.", 9 VOUT (power) "Boost converter output.", 10 FLASH_SYNC (in) "Flash strobe pulse synchronization input. FLASH_SYNC = LOW (GND): The device is operating and regulating the LED current to the torch current level (TC). FLASH_SYNC = HIGH (VIN): The device is operating and regulating the (See Datasheet)", 11 EP (power) "Internally connected to PGND."

## TPS61055DRCRG4
designator U?
500 mA High Power White LED Driver with Standard Logic Interface, 2.5 to 6 V, -40 to 85 degC, 10-pin SON (DRC10), Green (RoHS & no Sb/Br); Manufacturer: Texas Instruments; PartNumber: TPS61055DRCRG4; Dimming: TRUE; Iout(Max)(A): 1.2; Iq(Typ)(mA): 8.5; Rating: Catalog; Switching Frequency(Max)(kHz): 2000; Topology: Boost; Vin(Max)(V): 6; Vin(Min)(V): 2.5; DatasheetVersion: SLUS760A; PackageVersion: 4204102-3/L; PackageReference: DRC10-2400X1650TP; PackageDescription: 10-Pin Plastic Small Outline, Body 3 x 3 mm, Pitch 0.5 mm; Supplier 1: Digi-Key; Supplier Part Number 1: TPS61055DRCRG4-ND; Supplier 2: Mouser; Supplier Part Number 2: 595-TPS61055DRCRG4; Eco-Plan: Green (RoHS & no Sb/Br); SubFamily: White LED Driver; Mounting Technology: Surface Mount; ComponentLink1Description: Manufacturer URL; ComponentLink1URL: http://www.ti.com/; ComponentLink2Description: Datasheet; ComponentLink2URL: http://www.ti.com/general/docs/lit/getliterature.tsp?genericPartNumber=TPS61055&fileType=pdf; ComponentLink3Description: Package Specification; ComponentLink3URL: http://www.ti.com/litv/pdf/mpds117k
footprint TI-DRC10-2400X1650TP_V (SON, 10-Leads, Body 3x3mm, Pitch 0.5mm, Thermal Pad 3x1.65mm)
pins: 1 MODE1 (in) "Mode selection inputs. These pins must not be left floating and must be terminated.MODE0 = 0, MODE1 = 0: Device in shutdown mode MODE0 = 1, MODE1 = 0: Device in torch only mode MODE0 = 0, MODE1 = 1: Device in torch and flash (See Datasheet)", 2 MODE0 (in) "Mode selection inputs. These pins must not be left floating and must be terminated.MODE0 = 0, MODE1 = 0: Device in shutdown mode MODE0 = 1, MODE1 = 0: Device in torch only mode MODE0 = 0, MODE1 = 1: Device in torch and flash (See Datasheet)", 3 TX-TOFF (in) "RF PA synchronization input. Tx-TOFF = LOW : The device is operating normally. Tx-TOFF = HIGH : The device is forced into torch mode.", 4 AGND (power) "Analog ground.", 5 AVIN (power) "This is the input voltage pin of the device. Connect directly to the input bypass capacitor.", 6 LED (in) "LED return input. This feedback pin regulates the LED current through the internal sense resistor by regulating the voltage across it. The regulation operates with typically 250 mV dropout voltage. Connect to the cathode of (See Datasheet)", 7 PGND (power) "Power ground. Connect to AGND underneath IC.", 8 SW (power) "Inductor connection. Drain of the internal power MOSFE.Connect to the switched side of the inductor. SW is high impedance during shutdown.", 9 VOUT (power) "Boost converter output.", 10 FLASH_SYNC (in) "Flash strobe pulse synchronization input. FLASH_SYNC = LOW (GND): The device is operating and regulating the LED current to the torch current level (TC). FLASH_SYNC = HIGH (VIN): The device is operating and regulating the (See Datasheet)", 11 EP (power) "Internally connected to PGND."

## TPS61055DRCT
designator U?
500 mA High Power White LED Driver with Standard Logic Interface, 2.5 to 6 V, -40 to 85 degC, 10-pin SON (DRC10), Green (RoHS & no Sb/Br); Manufacturer: Texas Instruments; PartNumber: TPS61055DRCT; Dimming: TRUE; Iout(Max)(A): 1.2; Iq(Typ)(mA): 8.5; Rating: Catalog; Switching Frequency(Max)(kHz): 2000; Topology: Boost; Vin(Max)(V): 6; Vin(Min)(V): 2.5; DatasheetVersion: SLUS760A; PackageVersion: 4204102-3/L; PackageReference: DRC10-2400X1650TP; PackageDescription: 10-Pin Plastic Small Outline, Body 3 x 3 mm, Pitch 0.5 mm; Supplier 1: Digi-Key; Supplier Part Number 1: 296-23435-2-ND; Supplier 2: Digi-Key; Supplier Part Number 2: 296-23435-1-ND; Supplier 3: Digi-Key; Supplier Part Number 3: 296-23435-6-ND; Supplier 4: Farnell; Supplier Part Number 4: 1647914RL; Supplier 5: Farnell; Supplier Part Number 5: 1647914; Supplier 6: Newark; Supplier Part Number 6: 11N9842; Supplier 7: Mouser; Supplier Part Number 7: 595-TPS61055DRCT; Eco-Plan: Green (RoHS & no Sb/Br); SubFamily: White LED Driver; Mounting Technology: Surface Mount; ComponentLink1Description: Manufacturer URL; ComponentLink1URL: http://www.ti.com/; ComponentLink2Description: Datasheet; ComponentLink2URL: http://www.ti.com/general/docs/lit/getliterature.tsp?genericPartNumber=TPS61055&fileType=pdf; ComponentLink3Description: Package Specification; ComponentLink3URL: http://www.ti.com/litv/pdf/mpds117k
footprint TI-DRC10-2400X1650TP_V (SON, 10-Leads, Body 3x3mm, Pitch 0.5mm, Thermal Pad 3x1.65mm)
pins: 1 MODE1 (in) "Mode selection inputs. These pins must not be left floating and must be terminated.MODE0 = 0, MODE1 = 0: Device in shutdown mode MODE0 = 1, MODE1 = 0: Device in torch only mode MODE0 = 0, MODE1 = 1: Device in torch and flash (See Datasheet)", 2 MODE0 (in) "Mode selection inputs. These pins must not be left floating and must be terminated.MODE0 = 0, MODE1 = 0: Device in shutdown mode MODE0 = 1, MODE1 = 0: Device in torch only mode MODE0 = 0, MODE1 = 1: Device in torch and flash (See Datasheet)", 3 TX-TOFF (in) "RF PA synchronization input. Tx-TOFF = LOW : The device is operating normally. Tx-TOFF = HIGH : The device is forced into torch mode.", 4 AGND (power) "Analog ground.", 5 AVIN (power) "This is the input voltage pin of the device. Connect directly to the input bypass capacitor.", 6 LED (in) "LED return input. This feedback pin regulates the LED current through the internal sense resistor by regulating the voltage across it. The regulation operates with typically 250 mV dropout voltage. Connect to the cathode of (See Datasheet)", 7 PGND (power) "Power ground. Connect to AGND underneath IC.", 8 SW (power) "Inductor connection. Drain of the internal power MOSFE.Connect to the switched side of the inductor. SW is high impedance during shutdown.", 9 VOUT (power) "Boost converter output.", 10 FLASH_SYNC (in) "Flash strobe pulse synchronization input. FLASH_SYNC = LOW (GND): The device is operating and regulating the LED current to the torch current level (TC). FLASH_SYNC = HIGH (VIN): The device is operating and regulating the (See Datasheet)", 11 EP (power) "Internally connected to PGND."

## TPS61055DRCTG4
designator U?
500 mA High Power White LED Driver with Standard Logic Interface, 2.5 to 6 V, -40 to 85 degC, 10-pin SON (DRC10), Green (RoHS & no Sb/Br); Manufacturer: Texas Instruments; PartNumber: TPS61055DRCTG4; Dimming: TRUE; Iout(Max)(A): 1.2; Iq(Typ)(mA): 8.5; Rating: Catalog; Switching Frequency(Max)(kHz): 2000; Topology: Boost; Vin(Max)(V): 6; Vin(Min)(V): 2.5; DatasheetVersion: SLUS760A; PackageVersion: 4204102-3/L; PackageReference: DRC10-2400X1650TP; PackageDescription: 10-Pin Plastic Small Outline, Body 3 x 3 mm, Pitch 0.5 mm; Supplier 1: Digi-Key; Supplier Part Number 1: TPS61055DRCTG4-ND; Supplier 2: Mouser; Supplier Part Number 2: 595-TPS61055DRCTG4; Eco-Plan: Green (RoHS & no Sb/Br); SubFamily: White LED Driver; Mounting Technology: Surface Mount; ComponentLink1Description: Manufacturer URL; ComponentLink1URL: http://www.ti.com/; ComponentLink2Description: Datasheet; ComponentLink2URL: http://www.ti.com/general/docs/lit/getliterature.tsp?genericPartNumber=TPS61055&fileType=pdf; ComponentLink3Description: Package Specification; ComponentLink3URL: http://www.ti.com/litv/pdf/mpds117k
footprint TI-DRC10-2400X1650TP_V (SON, 10-Leads, Body 3x3mm, Pitch 0.5mm, Thermal Pad 3x1.65mm)
pins: 1 MODE1 (in) "Mode selection inputs. These pins must not be left floating and must be terminated.MODE0 = 0, MODE1 = 0: Device in shutdown mode MODE0 = 1, MODE1 = 0: Device in torch only mode MODE0 = 0, MODE1 = 1: Device in torch and flash (See Datasheet)", 2 MODE0 (in) "Mode selection inputs. These pins must not be left floating and must be terminated.MODE0 = 0, MODE1 = 0: Device in shutdown mode MODE0 = 1, MODE1 = 0: Device in torch only mode MODE0 = 0, MODE1 = 1: Device in torch and flash (See Datasheet)", 3 TX-TOFF (in) "RF PA synchronization input. Tx-TOFF = LOW : The device is operating normally. Tx-TOFF = HIGH : The device is forced into torch mode.", 4 AGND (power) "Analog ground.", 5 AVIN (power) "This is the input voltage pin of the device. Connect directly to the input bypass capacitor.", 6 LED (in) "LED return input. This feedback pin regulates the LED current through the internal sense resistor by regulating the voltage across it. The regulation operates with typically 250 mV dropout voltage. Connect to the cathode of (See Datasheet)", 7 PGND (power) "Power ground. Connect to AGND underneath IC.", 8 SW (power) "Inductor connection. Drain of the internal power MOSFE.Connect to the switched side of the inductor. SW is high impedance during shutdown.", 9 VOUT (power) "Boost converter output.", 10 FLASH_SYNC (in) "Flash strobe pulse synchronization input. FLASH_SYNC = LOW (GND): The device is operating and regulating the LED current to the torch current level (TC). FLASH_SYNC = HIGH (VIN): The device is operating and regulating the (See Datasheet)", 11 EP (power) "Internally connected to PGND."

## TPS61055YZGR
designator U?
500 mA High Power White LED Driver with Standard Logic Interface, 2.5 to 6 V, -40 to 85 degC, 12-pin BGA (YZG12), Green (RoHS & no Sb/Br); Manufacturer: Texas Instruments; PartNumber: TPS61055YZGR; Dimming: TRUE; Iout(Max)(A): 1.2; Iq(Typ)(mA): 8.5; Rating: Catalog; Switching Frequency(Max)(kHz): 2000; Topology: Boost; Vin(Max)(V): 6; Vin(Min)(V): 2.5; DatasheetVersion: SLUS760A; PackageVersion: 4205059/D; PackageReference: YZG12; PackageDescription: 12-Ball, Silicon Grid Array, Body Size 1.96 x 1.46 mm, Pitch 0.5 mm; Supplier 1: Digi-Key; Supplier Part Number 1: 296-23549-2-ND; Supplier 2: Digi-Key; Supplier Part Number 2: 296-23549-1-ND; Supplier 3: Digi-Key; Supplier Part Number 3: 296-23549-6-ND; Supplier 4: Newark; Supplier Part Number 4: 03P5215; Supplier 5: Mouser; Supplier Part Number 5: 595-TPS61055YZGR; Eco-Plan: Green (RoHS & no Sb/Br); SubFamily: White LED Driver; Mounting Technology: Surface Mount; ComponentLink1Description: Manufacturer URL; ComponentLink1URL: http://www.ti.com/; ComponentLink2Description: Datasheet; ComponentLink2URL: http://www.ti.com/general/docs/lit/getliterature.tsp?genericPartNumber=TPS61055&fileType=pdf; ComponentLink3Description: Package Specification; ComponentLink3URL: http://www.ti.com/lit/ds/symlink/tps61054.pdf
footprint TI-YZG12-1960X1460DE (BGA, 12-Balls, Body 1.96x1.46mm, Pitch 0.5mm)
pins: A1 FLASH_SYNC (in) "Flash strobe pulse synchronization input. FLASH_SYNC = LOW (GND): The device is operating and regulating the LED current to the torch current level (TC). FLASH_SYNC = HIGH (VIN): The device is operating and regulating the (See Datasheet)", A2 VOUT (power) "Boost converter output.", A3 MODE1 (in) "Mode selection inputs. These pins must not be left floating and must be terminated. MODE0 = 0, MODE1 = 0: Device in shutdown mode MODE0 = 1, MODE1 = 0: Device in torch only mode MODE0 = 0, MODE1 = 1: Device in torch and (See Datasheet)", B1 SW (power) "Inductor connection. Drain of the internal power MOSFET. Connect to the switched side of the inductor. SW is high impedance during shutdown.", B2 SW (power) "Inductor connection. Drain of the internal power MOSFET. Connect to the switched side of the inductor. SW is high impedance during shutdown.", B3 MODE0 (in) "Mode selection inputs. These pins must not be left floating and must be terminated. MODE0 = 0, MODE1 = 0: Device in shutdown mode MODE0 = 1, MODE1 = 0: Device in torch only mode MODE0 = 0, MODE1 = 1: Device in torch and (See Datasheet)", C1 PGND (power) "Power ground. Connect to AGND underneath IC.", C2 PGND (power) "Power ground. Connect to AGND underneath IC.", C3 TX-TOFF (in) "RF PA synchronization input. Tx-TOFF = LOW : The device is operating normally. Tx-TOFF = HIGH : The device is forced into torch mode.", D1 AGND (power) "Analog ground.", D2 LED (in) "LED return input. This feedback pin regulates the LED current through the internal sense resistor by regulating the voltage across it. The regulation operates with typically 250 mV dropout voltage. Connect to the cathode of (See Datasheet)", D3 AVIN (power) "This is the input voltage pin of the device. Connect directly to the input bypass capacitor."